# EAGLE library part REF32XX (library DAC)
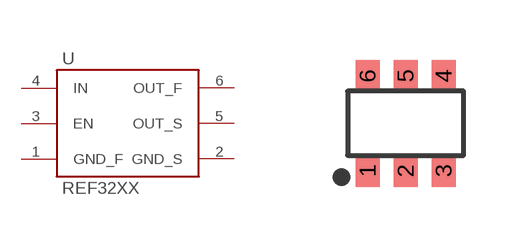
[diagram p40: symbol with the pads of TI-DBV-6; footprint TI-DBV-6]

Designator prefix U

## REF32XXDBV  [TI-DBV-6]
1  GND_F  sup
2  GND_S  sup
3  EN  in
4  IN  pwr
5  OUT_S  out
6  OUT_F  out

## Footprint TI-DBV-6 (pad centres in mm)
smd 0.6 x 0.8: 1 -0.95,-1.188; 2 0,-1.188; 3 0.95,-1.188; 4 0.95,1.188; 5 0,1.188; 6 -0.95,1.188